# Altium schematic symbol library SM02B-GHS-TBLFSN.SchLib: 2 symbols
Pins are listed as number, name and electrical type; pins without a type are passive.

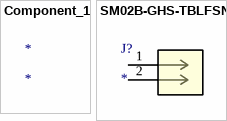
[diagram p0: symbols Component_1 to SM02B-GHS-TBLFSN]

## Component_1
designator *

## SM02B-GHS-TBLFSN
designator J?
No Description Available; Mfr_Name: JST; RefDes: RefDes; Type: Type
footprint CONN_SM02B-GHS_JST
pins: 1, 2